# Altium schematic symbol library ON SEMI MC78LC00.SchLib: 1 symbol
Pins are listed as number, name and electrical type; pins without a type are passive.

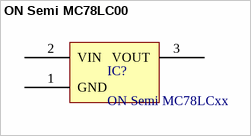
[diagram p0: symbol ON Semi MC78LC00]

## ON Semi MC78LC00
designator IC?, comment ON Semi MC78LCxx
Micropower Voltage  Regulator
pins: 1 GND, 2 VIN, 3 VOUT